# EAGLE library part TPS23861 (library parts)
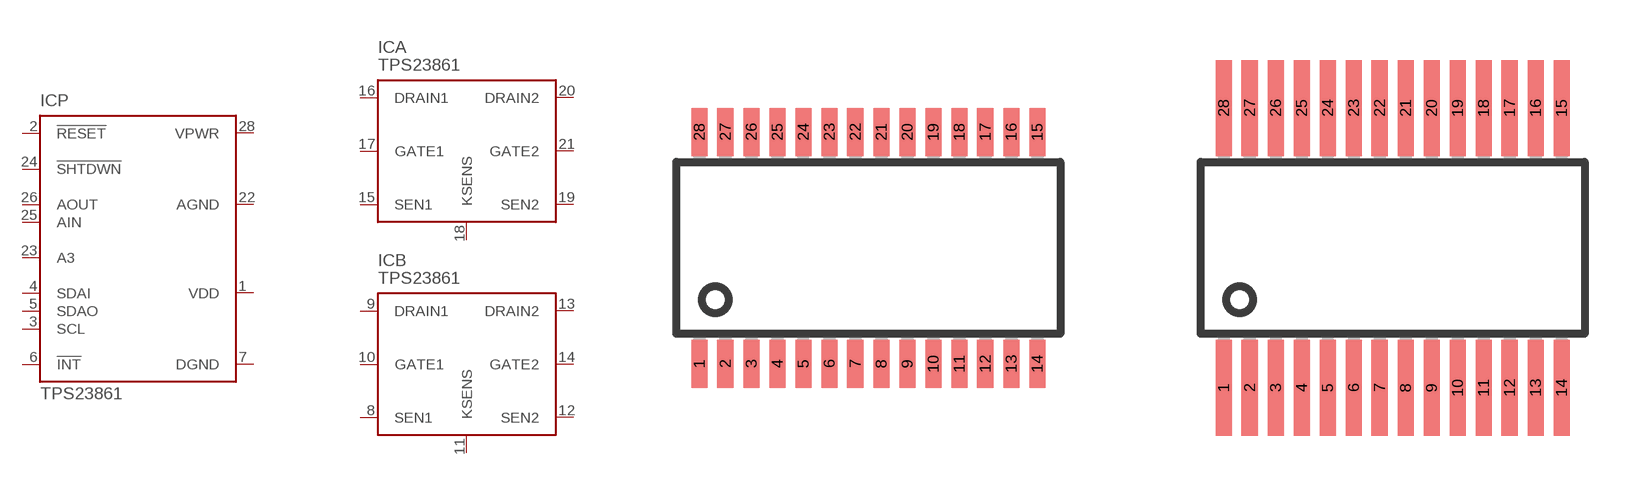
[diagram p0: symbol with the pads of PW_R-PDSO-G28; footprints PW_R-PDSO-G28, PW_R-PDSO-G28_HAND]

Designator prefix IC; gates P=TSP23861-MAIN A=TPS23861-PORTS B=TPS23861-PORTS

## TPS23861PW  [PW_R-PDSO-G28]
1  P:VDD  pwr
2  P:!RESET  in
3  P:SCL  in
4  P:SDAI  in
5  P:SDAO  out
6  P:!INT  out
7  P:DGND  pwr
8  B:SEN1  in
9  B:DRAIN1  in
10  B:GATE1  out
11  B:KSENS  in
12  B:SEN2  in
13  B:DRAIN2  in
14  B:GATE2  out
15  A:SEN1  in
16  A:DRAIN1  in
17  A:GATE1  out
18  A:KSENS  in
19  A:SEN2  in
20  A:DRAIN2  in
21  A:GATE2  out
22  P:AGND  pwr
23  P:A3  in
24  P:!SHTDWN  in
25  P:AIN  in
26  P:AOUT  out
28  P:VPWR  pwr

## TPS23861PW-HAND  [PW_R-PDSO-G28_HAND]
Pads as for PW_R-PDSO-G28

## Footprint PW_R-PDSO-G28 (pad centres in mm)
PLASTIC SMALL-OUTLINE PACKAGE SO 28 JEDEC MO-153, PW Type Source: www.ti.com/.. slvs087l.pdf
smd 0.4 x 1.2: 1 -4.225,-2.9; 2 -3.575,-2.9; 3 -2.925,-2.9; 4 -2.275,-2.9; 5 -1.625,-2.9; 6 -0.975,-2.9; 7 -0.325,-2.9; 8 0.325,-2.9; 9 0.975,-2.9; 10 1.625,-2.9; 11 2.275,-2.9; 12 2.925,-2.9; 13 3.575,-2.9; 14 4.225,-2.9; 15 4.225,2.9; 16 3.575,2.9; 17 2.925,2.9; 18 2.275,2.9; 19 1.625,2.9; 20 0.975,2.9; 21 0.325,2.9; 22 -0.325,2.9; 23 -0.975,2.9; 24 -1.625,2.9; 25 -2.275,2.9; 26 -2.925,2.9; 27 -3.575,2.9; 28 -4.225,2.9

## Footprint PW_R-PDSO-G28_HAND (pad centres in mm)
PLASTIC SMALL-OUTLINE PACKAGE SO 28 JEDEC MO-153, PW Type Source: www.ti.com/.. slvs087l.pdf Adjusted pad length for easier hand soldering.
smd 0.4 x 2.4: 1 -4.225,-3.5; 2 -3.575,-3.5; 3 -2.925,-3.5; 4 -2.275,-3.5; 5 -1.625,-3.5; 6 -0.975,-3.5; 7 -0.325,-3.5; 8 0.325,-3.5; 9 0.975,-3.5; 10 1.625,-3.5; 11 2.275,-3.5; 12 2.925,-3.5; 13 3.575,-3.5; 14 4.225,-3.5; 15 4.225,3.5; 16 3.575,3.5; 17 2.925,3.5; 18 2.275,3.5; 19 1.625,3.5; 20 0.975,3.5; 21 0.325,3.5; 22 -0.325,3.5; 23 -0.975,3.5; 24 -1.625,3.5; 25 -2.275,3.5; 26 -2.925,3.5; 27 -3.575,3.5; 28 -4.225,3.5